# Altium schematic symbol library 4.SchLib: 1 symbol
Pins are listed as number, name and electrical type; pins without a type are passive.

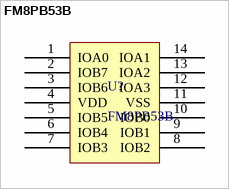
[diagram p0: symbol FM8PB53B]

## FM8PB53B
designator U?
pins: 1 IOA0, 2 IOB7, 3 IOB6, 4 VDD, 5 IOB5, 6 IOB4, 7 IOB3, 8 IOB2, 9 IOB1, 10 IOB0, 11 VSS, 12 IOA3, 13 IOA2, 14 IOA1